# EAGLE library part SN754410 (library HBridge)
Quadruple half-H driver
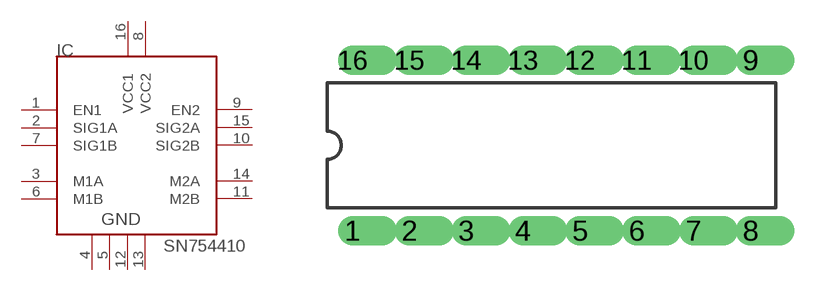
[diagram p0: symbol with the pads of DIP16; footprint DIP16]

Designator prefix IC

## SN754410  [DIP16]
1  EN1
2  SIG1A
3  M1A
4  P4  pwr
5  P5  pwr
6  M1B
7  SIG1B
8  VCC2  pwr
9  EN2
10  SIG2B
11  M2B
12  P12  pwr
13  P13  pwr
14  M2A
15  SIG2A
16  VCC1  pwr

## Footprint DIP16 (pad centres in mm)
drill 0.813 offset: 1 -10.16,-3.81; 2 -7.62,-3.81; 3 -5.08,-3.81; 4 -2.54,-3.81; 5 0,-3.81; 6 2.54,-3.81; 7 5.08,-3.81; 8 7.62,-3.81; 9 7.62,3.81; 10 5.08,3.81; 11 2.54,3.81; 12 0,3.81; 13 -2.54,3.81; 14 -5.08,3.81; 15 -7.62,3.81; 16 -10.16,3.81